# Altium schematic symbol library BF821.Schlib: 1 symbol
Pins are listed as number, name and electrical type; pins without a type are passive.

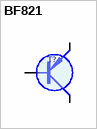
[diagram p0: symbol BF821]

## BF821
designator T?
SOT23   300V 50mA 60MHz 1.6pF(30V) (BF820)
pins: 1 B, 2 E (oe), 3 C (oc)
1 alternate drawing of the same symbol